# Altium footprint library Solderstation.PcbLib: 31 footprints (part 1 of 2)
Each footprint in its own frame and in the unit in brackets; x right, y up, seen from the top. Pads: shape width x height; smd on the part's side, far side on the other; paste and mask are expansions set on the pad; w line width, h text height; cw(c..) or ccw(c..) is an arc to the next point about the centre after c.
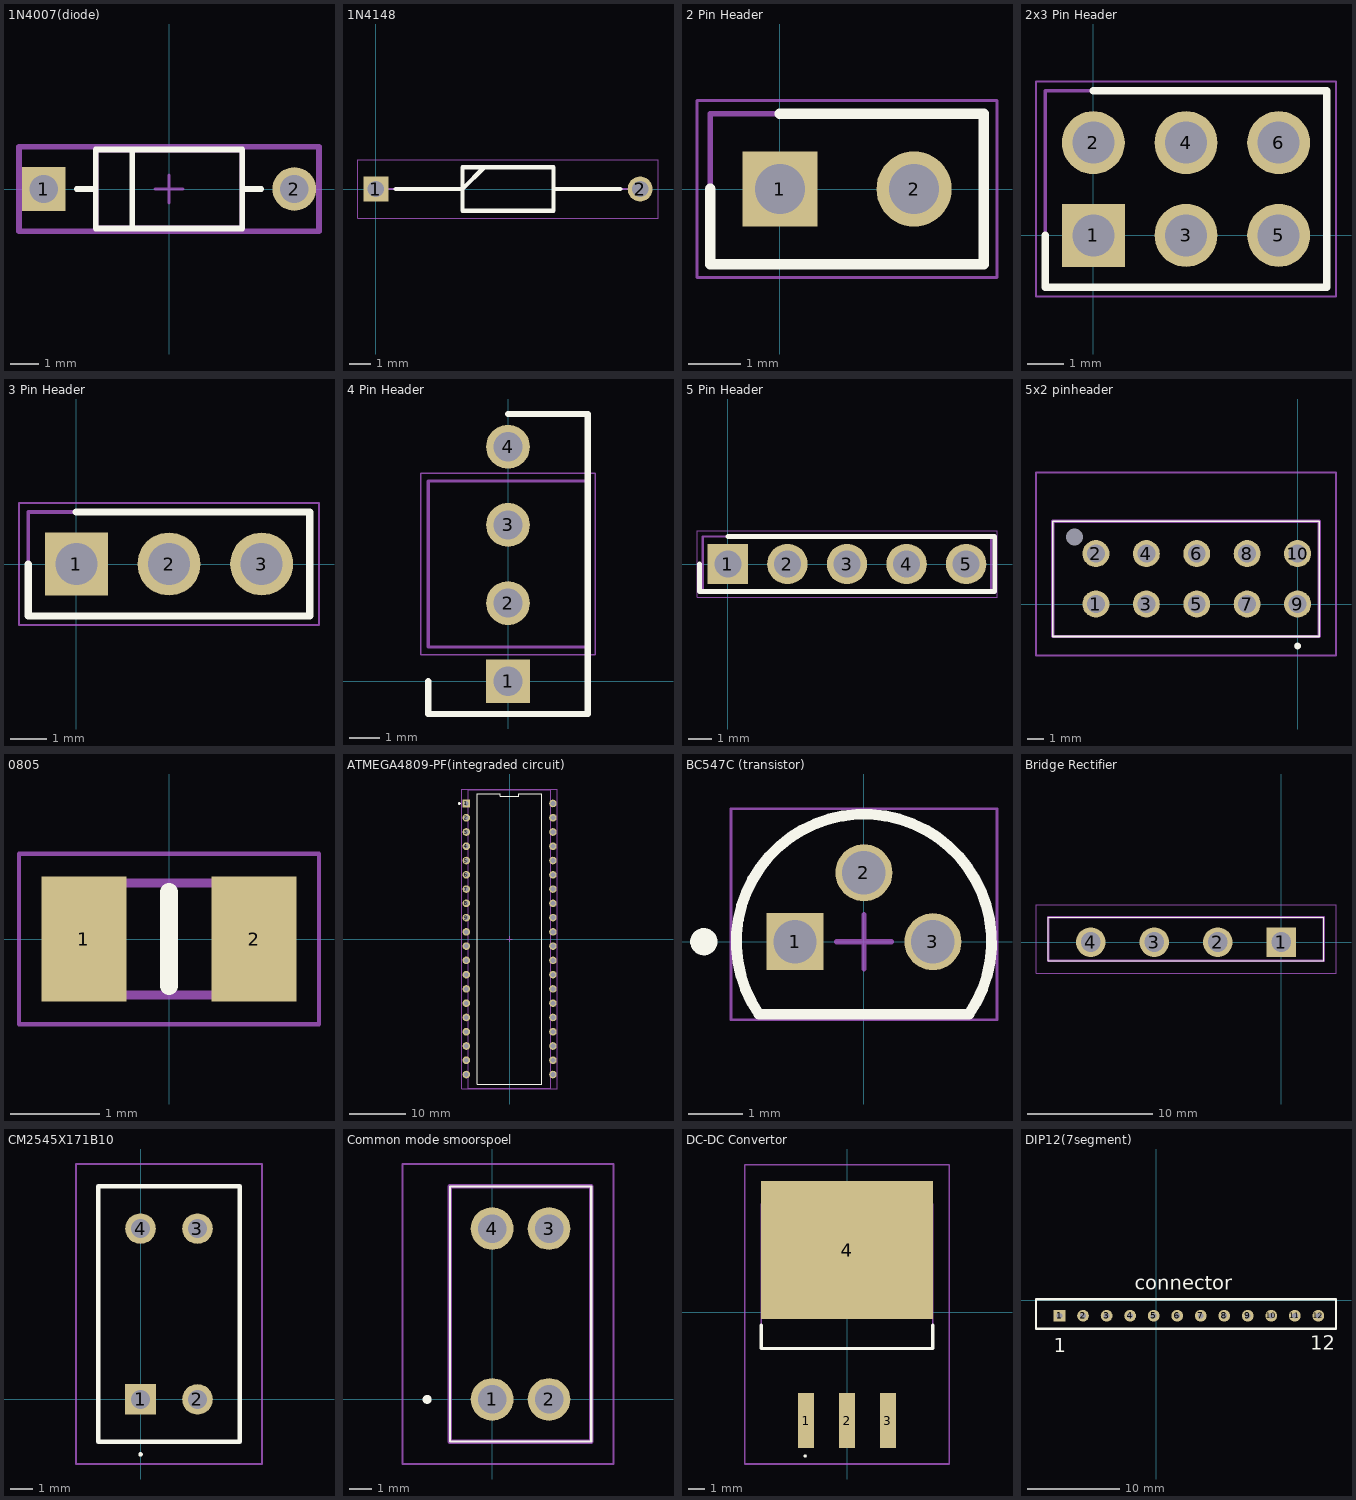
[diagram p0: the footprints below, top view; thin cyan lines are the x and y axes]

## 1N4007(diode) [mm]
pads (2):
  rect 1.55x1.55 hole 1 paste-2539.97 mask+0: 1(-4.44,0)
  round 1.55 hole 1 paste-2539.97 mask+0: 2(4.44,0)
Top Overlay:
  lines w0.2: -3.265,0 -2.6,0 ; -1.3,-1.33 -1.3,1.33 ; 2.6,0 3.265,0 ; -2.6,-1.4 2.6,-1.4 2.6,1.4 -2.6,1.4 -2.6,-1.4
Top 3D Body:
  lines w0.2: -2.6,-1.4 2.6,-1.4 2.6,1.4 -2.6,1.4 -2.6,-1.4
Top Courtyard:
  lines w0.2: -5.315,-1.5 5.315,-1.5 5.315,1.5 -5.315,1.5 -5.315,-1.5
Top Assembly:
  lines w0.2: -5.315,-1.5 5.315,-1.5 5.315,1.5 -5.315,1.5 -5.315,-1.5
  text ".Designator" at 0,0.188 h1
Top Component Center:
  lines w0.1: -0.5,0 0.5,0 ; 0,-0.5 0,0.5
3D body "Diode_Diotec_1N4007_eec.STEP": height 0.25, standoff 0, extent -5.315,-1.5 5.315,1.5

## 1N4148 [mm] "DIOAD1220W56L420D200"
pads (2):
  rect 1.15x1.15 hole 0.75: 1(0,0)
  round 1.15 hole 0.75: 2(12.2,0)
Top Overlay:
  lines w0.2: 0.925,0 4,0 5,1 ; 8.2,0 11.275,0 ; 4,-1 8.2,-1 8.2,1 4,1 4,-1
Mechanical 13:
  lines w0.1: 0,0 4,0 5,1 ; 8.2,0 12.2,0 ; 4,-1 8.2,-1 8.2,1 4,1 4,-1
Mechanical 15:
  lines w0.05: -0.825,-1.35 13.025,-1.35 13.025,1.35 -0.825,1.35 -0.825,-1.35
3D body "1N4148-B.stp": height 1.99, standoff -2, extent -0.277,-0.998 12.48,0.998

## 2 Pin Header [mm]
pads (2):
  rect 1.425x1.425 hole 0.95: 1(0,0)
  round 1.425 hole 0.95: 2(2.54,0)
Top Overlay:
  lines w0.2: -1.32,0 -1.32,-1.425 3.86,-1.425 3.86,1.425 0,1.425
Mechanical 13:
  lines w0.1: -1.32,-1.425 -1.32,1.425 3.86,1.425 3.86,-1.425 -1.32,-1.425
Mechanical 15:
  lines w0.05: -1.57,-1.675 -1.57,1.675 4.11,1.675 4.11,-1.675 -1.57,-1.675
3D body "5-146280-2.stp": height 8.12, standoff -3.05, extent -1.067,-1.168 3.607,1.168

## 2x3 Pin Header [mm] "HDRV6W67P254_2X3_721X488X872P"
pads (6):
  rect 1.725x1.725 hole 1.15: 1(0,0)
  round 1.725 hole 1.15: 2(0,2.54) 3(2.54,0) 4(2.54,2.54) 5(5.08,0) 6(5.08,2.54)
Top Overlay:
  lines w0.2: -1.32,0 -1.32,-1.425 6.4,-1.425 6.4,3.965 0,3.965
Mechanical 13:
  lines w0.1: -1.32,-1.425 -1.32,3.965 6.4,3.965 6.4,-1.425 -1.32,-1.425
Mechanical 15:
  lines w0.05: -1.57,-1.675 -1.57,4.215 6.65,4.215 6.65,-1.675 -1.57,-1.675
3D body "5-146256-3.stp": height 8.12, standoff -3.05, extent -1.067,-1.168 6.147,3.708

## 3 Pin Header [mm]
pads (3):
  rect 1.725x1.725 hole 1.15: 1(0,0)
  round 1.725 hole 1.15: 2(2.54,0) 3(5.08,0)
Top Overlay:
  lines w0.2: -1.32,0 -1.32,-1.425 6.4,-1.425 6.4,1.425 0,1.425
Mechanical 13:
  lines w0.1: -1.32,-1.425 -1.32,1.425 6.4,1.425 6.4,-1.425 -1.32,-1.425
Mechanical 15:
  lines w0.05: -1.57,-1.675 -1.57,1.675 6.65,1.675 6.65,-1.675 -1.57,-1.675
3D body "5-146280-3.stp": height 8.12, standoff -3.05, extent -1.067,-1.168 6.147,1.168

## 4 Pin Header [mm]
pads (4):
  rect 1.425x1.425 hole 0.95: 1(0,0)
  round 1.425 hole 0.95: 2(0,2.54) 3(0,5.08) 4(0,7.62)
Top Overlay:
  lines w0.2: -2.59,0 -2.59,-1.062 2.59,-1.062 2.59,8.683 0,8.683
Mechanical 13:
  lines w0.1: -2.59,1.115 -2.59,6.505 2.59,6.505 2.59,1.115 -2.59,1.115
Mechanical 15:
  lines w0.05: -2.84,0.865 -2.84,6.755 2.84,6.755 2.84,0.865 -2.84,0.865
3D body "5-146280-4.stp": height 8.21, standoff -3.43, extent -2.335,-0.384 2.335,8.004

## 5 Pin Header [mm]
pads (5):
  rect 1.725x1.725 hole 1.15: 1(0,0)
  round 1.725 hole 1.15: 2(2.54,0) 3(5.08,0) 4(7.62,0) 5(10.16,0)
Top Overlay:
  lines w0.2: -1.212,0 -1.212,-1.17 11.373,-1.17 11.373,1.17 0,1.17
Mechanical 13:
  lines w0.1: -1.065,-1.17 11.225,-1.17 11.225,1.17 -1.065,1.17 -1.065,-1.17
Mechanical 15:
  lines w0.05: -1.315,-1.42 11.475,-1.42 11.475,1.42 -1.315,1.42 -1.315,-1.42
3D body "5-146280-5.stp": height 8.12, standoff -3.05, extent -1.067,-1.168 11.227,1.168

## 5x2 pinheader [mm]
pads (11):
  round 1.605 hole 1.07: 1(-12,0) 2(-12,3) 3(-9,0) 4(-9,3) 5(-6,0) 6(-6,3) 7(-3,0) 8(-3,3) 9(0,0) 10(0,3)
  round 0.51 hole 1.02 unplated: MH1(-13.28,3.98)
Top Overlay:
  lines w0.1: -14.565,-1.93 1.285,-1.93 1.285,4.93 -14.565,4.93 -14.565,-1.93
  lines w0.2: -0.1,-2.5 cw(c0,-2.5) 0.1,-2.5 cw(c0,-2.5) -0.1,-2.5
Mechanical 15:
  lines w0.2: -14.565,-1.93 1.285,-1.93 1.285,4.93 -14.565,4.93 -14.565,-1.93
Bottom Assembly:
  lines w0.1: -15.565,-3.06 2.285,-3.06 2.285,7.82 -15.565,7.82 -15.565,-3.06

## 0805 [mm]
pads (2):
  rect 0.95x1.4 smd: 1(-0.95,0) 2(0.95,0)
Top Overlay:
  lines w0.2: 0,-0.525 0,0.525
Mechanical 13:
  lines w0.1: -1,-0.625 -1,0.625 1,0.625 1,-0.625 -1,-0.625
Mechanical 15:
  lines w0.05: -1.675,-0.95 -1.675,0.95 1.675,0.95 1.675,-0.95 -1.675,-0.95
3D body "AC0805FR-7W2KL.stp": height 0.6, standoff 0, extent -1,-0.625 1,0.625

## ATMEGA4809-PF(integraded circuit) [mm]
pads (40):
  rect 1.35x1.35 hole 0.85 paste-2539.97 mask+0: 1(-7.715,24.13)
  round 1.35 hole 0.85 paste-2539.97 mask+0: 2(-7.715,21.59) 3(-7.715,19.05) 4(-7.715,16.51) 5(-7.715,13.97) 6(-7.715,11.43) 7(-7.715,8.89) 8(-7.715,6.35) 9(-7.715,3.81) 10(-7.715,1.27) 11(-7.715,-1.27) 12(-7.715,-3.81) 13(-7.715,-6.35) 14(-7.715,-8.89) 15(-7.715,-11.43) 16(-7.715,-13.97) 17(-7.715,-16.51) 18(-7.715,-19.05) 19(-7.715,-21.59) 20(-7.715,-24.13) 21(7.715,-24.13) 22(7.715,-21.59) 23(7.715,-19.05) 24(7.715,-16.51) 25(7.715,-13.97) 26(7.715,-11.43) 27(7.715,-8.89) 28(7.715,-6.35) 29(7.715,-3.81) 30(7.715,-1.27) 31(7.715,1.27) 32(7.715,3.81) 33(7.715,6.35) 34(7.715,8.89) 35(7.715,11.43) 36(7.715,13.97) 37(7.715,16.51) 38(7.715,19.05) 39(7.715,21.59) 40(7.715,24.13)
Top Overlay:
  circle w0.25: c-8.94,24.13 r0.125
  lines w0.2: -5.763,-25.876 5.763,-25.876 5.763,25.876 1.646,25.876 1.646,25.376 -1.646,25.376 -1.646,25.876 -5.763,25.876 -5.763,-25.876
Top 3D Body:
  lines w0.2: -7.366,-26.607 -7.366,26.607 7.366,26.607 7.366,-26.607 -7.366,-26.607
Top Courtyard:
  lines w0.2: -8.49,-26.706 -8.49,26.706 8.49,26.706 8.49,-26.706 -8.49,-26.706
Top Assembly:
  lines w0.2: -8.49,-26.706 -8.49,26.706 8.49,26.706 8.49,-26.706 -8.49,-26.706
  text ".Designator" at 0,0.188 h1
Top Component Center:
  lines w0.1: -0.5,0 0.5,0 ; 0,-0.5 0,0.5
3D body "IC_Microchip_Technology_PIC18LF47K40-I-P_eec.STEP": height 0.25, standoff 0, extent -8.49,-26.706 8.49,26.706

## BC547C (transistor) [mm] "TO, 3-Leads, Body Dia 4.7mm, Pitch 1.27mm"
height 7.87
pads (3):
  rect 1.05x1.05 hole 0.8: 1(-1.27,0)
  round 1.05 hole 0.8: 2(0,1.27) 3(1.27,0)
Top Overlay:
  circle w0.25: c-2.95,0 r0.125
  lines w0.2: -1.934,-1.335 cw(c0,0) 1.934,-1.335 -1.934,-1.335
Mechanical 13:
  lines w0.1: -1.934,-1.335 cw(c0,0) 1.934,-1.335 -1.934,-1.335
Mechanical 15:
  lines w0.05: -2.45,-1.435 2.45,-1.435 2.45,2.45 -2.45,2.45 -2.45,-1.435
  lines w0.1: -0.5,0 0.5,0 ; 0,-0.5 0,0.5
3D body: height 7.87, standoff 2.54, extent -2.349,-1.334 2.357,2.359

## Bridge Rectifier [mm]
pads (4):
  rect 2.37x2.37 hole 1.58: 1(0,0)
  round 2.37 hole 1.58: 2(-5.08,0) 3(-10.16,0) 4(-15.24,0)
Top Overlay:
  lines w0.1: -18.62,-1.5 3.38,-1.5 3.38,2 -18.62,2 -18.62,-1.5
Mechanical 13:
  lines w0.2: -18.62,-1.5 3.38,-1.5 3.38,2 -18.62,2 -18.62,-1.5
Mechanical 15:
  lines w0.1: -19.62,-2.5 4.38,-2.5 4.38,3 -19.62,3 -19.62,-2.5
3D body "GBU6J.stp": height 18.9, standoff -5, extent -18.62,-1.5 3.38,2

## CM2545X171B10 [mm]
pads (4):
  rect 1.365x1.365 hole 0.84: 1(0,0)
  round 1.365 hole 0.84: 2(2.54,0) 3(2.54,7.62) 4(0,7.62)
Top Overlay:
  lines w0.1: 0,-2.5 ccw(c0,-2.45) 0,-2.4 ccw(c0,-2.45) 0,-2.5
  lines w0.2: -1.88,-1.88 -1.88,9.5 4.42,9.5 4.42,-1.88 -1.88,-1.88
Mechanical 13:
  lines w0.1: -1.88,-1.88 -1.88,9.5 4.42,9.5 4.42,-1.88 -1.88,-1.88
Mechanical 15:
  lines w0.1: -2.88,-2.88 -2.88,10.5 5.42,10.5 5.42,-2.88 -2.88,-2.88
3D body "CM2545X171B-10.stp": height 3.15, standoff -3.15, extent -5.69,-3.43 5.69,9.5

## Common mode smoorspoel [mm] "CM2545X171B10"
pads (4):
  round 1.905 hole 1.27: 1(0,0) 2(2.54,0) 3(2.54,7.62) 4(0,7.62)
Top Overlay:
  lines w0.1: -1.88,-1.88 -1.88,9.5 4.42,9.5 4.42,-1.88 -1.88,-1.88
  lines w0.2: -3,0 cw(c-2.9,0) -2.8,0 cw(c-2.9,0) -3,0
Mechanical 13:
  lines w0.2: -1.88,-1.88 -1.88,9.5 4.42,9.5 4.42,-1.88 -1.88,-1.88
Mechanical 15:
  lines w0.1: -4,-2.88 -4,10.5 5.42,10.5 5.42,-2.88 -4,-2.88
3D body "CM2545X171B-10.stp": height 9.6, standoff -5, extent -1.88,-1.88 4.42,9.5

## DC-DC Convertor [mm]
pads (4):
  rect 1x3.4 smd: 1(-2.54,-6.745) 2(0,-6.745) 3(2.54,-6.745)
  rect 10.7x8.6 smd: 4(0,3.855)
Top Overlay:
  lines w0.1: -2.6,-9 cw(c-2.6,-8.95) -2.6,-8.9 cw(c-2.6,-8.95) -2.6,-9
  lines w0.2: -5.33,-0.8 -5.33,-2.27 5.33,-2.27 5.33,-0.8
Mechanical 13:
  lines w0.1: -5.33,-2.27 -5.33,6.745 5.33,6.745 5.33,-2.27 -5.33,-2.27
Mechanical 15:
  lines w0.1: -6.35,-9.445 -6.35,9.155 6.35,9.155 6.35,-9.445 -6.35,-9.445

## DIP12(7segment) [mil]
pads (12):
  rect 50x50 hole 25: 1(-410,-65)
  round 50 hole 25: 2(-310,-65) 3(-210,-65) 4(-110,-65) 5(-10,-65) 6(90,-65) 7(190,-65) 8(290,-65) 9(390,-65) 10(490,-65) 11(590,-65) 12(690,-65)
Top Overlay:
  lines w10: -510,-120 765,-120 765,5 -475,5 -510,5 -510,-120
  text "connector" at -90,45 h60
  text "1" at -435,-220 h60
  text "12" at 655,-210 h60